# Altium footprint library PCB.PcbLib: 3 footprints
Each footprint in its own frame and in the unit in brackets; x right, y up, seen from the top. Pads: shape width x height; smd on the part's side, far side on the other; paste and mask are expansions set on the pad; w line width, h text height; cw(c..) or ccw(c..) is an arc to the next point about the centre after c.
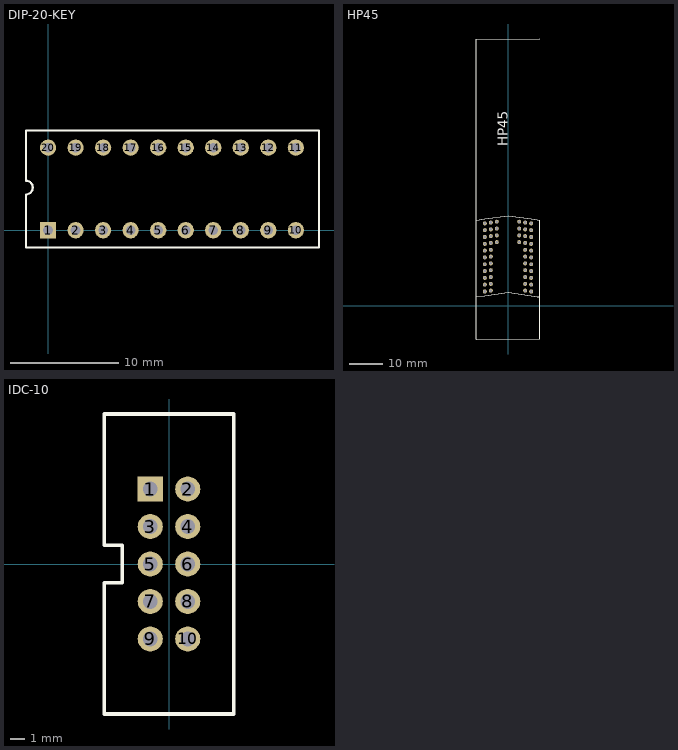
[diagram p0: the footprints below, top view; thin cyan lines are the x and y axes]

## DIP-20-KEY [mm] "DIP; 16 Leads; Row Spacing 7.62 mm; Pitch 2.54 mm"
height 1
pads (20):
  rect 1.5x1.5 hole 0.9: 1(0,0)
  round 1.5 hole 0.9: 2(2.54,0) 3(5.08,0) 4(7.62,0) 5(10.16,0) 6(12.7,0) 7(15.24,0) 8(17.78,0) 9(20.32,0) 10(22.86,0) 11(22.86,7.62) 12(20.32,7.62) 13(17.78,7.62) 14(15.24,7.62) 15(12.7,7.62) 16(10.16,7.62) 17(7.62,7.62) 18(5.08,7.62) 19(2.54,7.62) 20(0,7.62)
Top Overlay:
  lines w0.2: -2.05,4.57 cw(c-2.05,3.935) -2.05,3.3 -2.05,-1.59 25,-1.59 25,9.2 -2.05,9.2 -2.05,4.6

## HP45 [mm]
height 1
pads (52):
  round 1.2 hole 0.8: 1(6.98,4.3) 2(-6.98,4.3) 3(5.18,4.55) 4(-5.18,4.55) 5(6.98,6.35) 6(-6.98,6.35) 7(5.18,6.6) 8(-5.18,6.6) 9(6.98,8.4) 10(-6.98,8.4) 11(5.18,8.65) 12(-5.18,8.65) 13(6.98,10.45) 14(-6.98,10.45) 15(5.18,10.7) 16(-5.18,10.7) 17(6.98,12.5) 18(-6.98,12.5) 19(5.18,12.75) 20(-5.18,12.75) 21(6.98,14.55) 22(-6.98,14.55) 23(5.18,14.8) 24(-5.18,14.8) 25(6.98,16.6) 26(-6.98,16.6) 27(5.18,16.85) 28(-5.18,16.85) 29(6.98,18.65) 30(-6.98,18.65) 31(5.18,18.9) 32(-5.18,18.9) 33(3.38,19.15) 34(-3.38,19.15) 35(6.98,20.7) 36(-6.98,20.7) 37(5.18,20.95) 38(-5.18,20.95) 39(3.38,21.2) 40(-3.38,21.2) 41(6.98,22.75) 42(-6.98,22.75) 43(5.18,23) 44(-5.18,23) 45(3.38,23.25) 46(-3.38,23.25) 47(6.98,24.8) 48(-6.98,24.8) 49(5.18,25.05) 50(-5.18,25.05) 51(3.38,25.3) 52(-3.38,25.3)
Top Overlay:
  lines w0.254: -9.5,25.791 -9.5,-10 ; -9.499,25.791 -6.98,26.141 0,27.11 6.98,26.141 8.78,25.891 9.432,25.8 ; -9.497,2.681 -6.98,3.031 0,4 6.98,3.031 8.78,2.781 9.432,2.69 9.5,2.758 ; 9.5,25.8 9.5,2.758 ; 9.5,80.3 -9.5,80.3 -9.5,-10 ; -9.5,-10 9.5,-10 9.5,2.758
  text "HP45" at 1,48 h5

## IDC-10 [mm]
height 1
pads (10):
  rect 1.7x1.7 hole 1: 1(-1.27,5.08)
  round 1.7 hole 1: 2(1.27,5.08) 3(-1.27,2.54) 4(1.27,2.54) 5(-1.27,0) 6(1.27,0) 7(-1.27,-2.54) 8(1.27,-2.54) 9(-1.27,-5.08) 10(1.27,-5.08)
Top Overlay:
  lines w0.254: -4.4,-10.175 4.4,-10.175 4.4,10.175 -4.4,10.175 -4.4,1.27 -3.175,1.27 -3.175,-1.27 -4.4,-1.27 -4.4,-10.175